# EAGLE library part IC_ATTINY_X4A (library brickster)
Atmel ATtiny24A/44A/84A
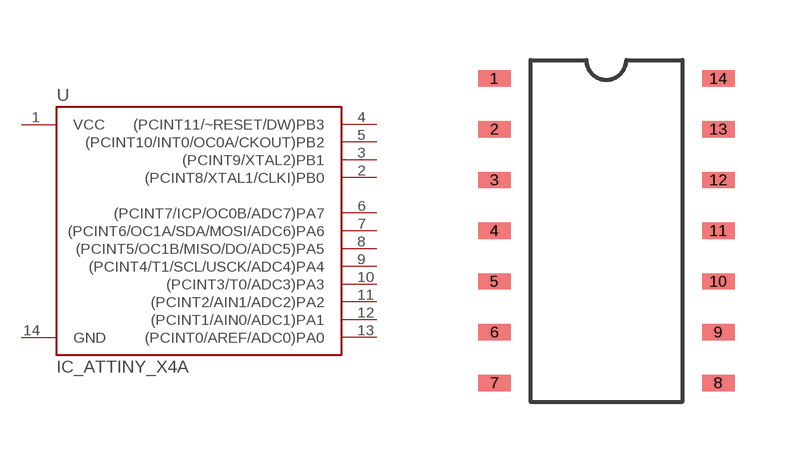
[diagram p0: symbol with the pads of 14S1; footprint 14S1]

Designator prefix U

## IC_ATTINY_X4A  [14S1]
1  VCC
2  (PCINT8/XTAL1/CLKI)PB0
3  (PCINT9/XTAL2)PB1
4  (PCINT11/~RESET/DW)PB3
5  (PCINT10/INT0/OC0A/CKOUT)PB2
6  (PCINT7/ICP/OC0B/ADC7)PA7
7  (PCINT6/OC1A/SDA/MOSI/ADC6)PA6
8  (PCINT5/OC1B/MISO/DO/ADC5)PA5
9  (PCINT4/T1/SCL/USCK/ADC4)PA4
10  (PCINT3/T0/ADC3)PA3
11  (PCINT2/AIN1/ADC2)PA2
12  (PCINT1/AIN0/ADC1)PA1
13  (PCINT0/AREF/ADC0)PA0
14  GND

## Footprint 14S1 (pad centres in mm)
smd 0.813 x 0.406: 1 -2.8,3.81; 2 -2.8,2.54; 3 -2.8,1.27; 4 -2.8,0; 5 -2.8,-1.27; 6 -2.8,-2.54; 7 -2.8,-3.81; 8 2.8,-3.81; 9 2.8,-2.54; 10 2.8,-1.27; 11 2.8,0; 12 2.8,1.27; 13 2.8,2.54; 14 2.8,3.81